# Altium schematic symbol library 元件库.SCHLIB: 16 symbols
Pins are listed as number, name and electrical type; pins without a type are passive.

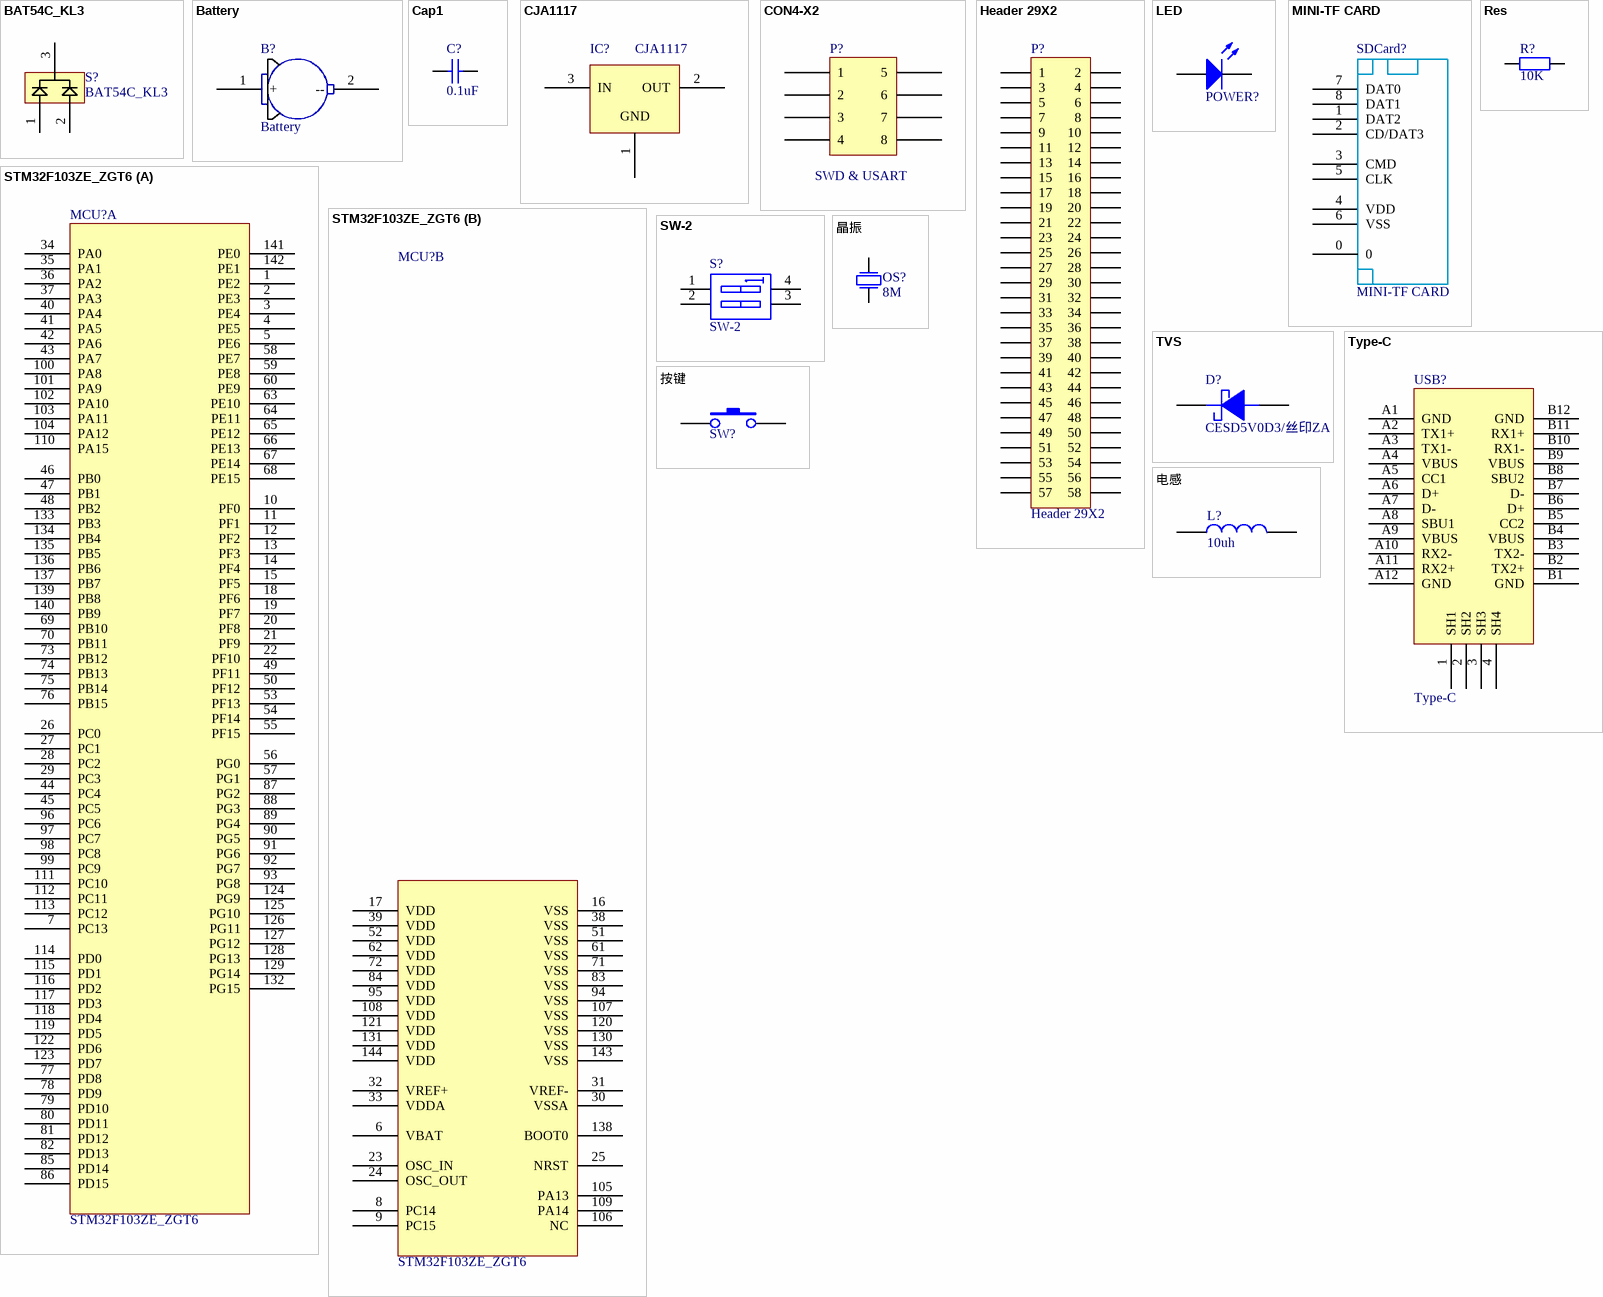
[diagram p0: symbols BAT54C_KL3 to 电感]

## BAT54C_KL3
designator S?
footprint SO-G3/C2.25 (SOT-23; 3 Leads; Body 3.0 x 2.5 mm, inc. leads (LxW max))
pins: 1, 2, 3

## Battery
designator B?
footprint BatteryHolder
footprint CR1220
pins: 1 +, 2 --

## Cap1
designator C?, comment 0.1uF
value: 0.1uF
footprint RAD0.2
footprint RAD0.3
footprint RAD0.4
footprint RAD0.5
footprint RAD0.6
footprint 0603-cap (Chip Capacitor, 2-Leads, Body 1.60x0.80mm, IPC Medium Density)
footprint 0805-CAP (Chip Capacitor, 2-Leads, Body 2.80x1.40mm, IPC Medium Density)
footprint 0402-CAP (Chip Capacitor, 2-Leads, Body 1.00x0.50mm, IPC Medium Density)
pins: 1, 2

## CJA1117
designator IC?
footprint SOT89 (SOT89, 3-Leads, Body 4.50x2.45mm, Pitch 1.50mm, Lead Span 4.1mm, IPC Medium Density)
pins: 1 GND, 2 OUT, 3 IN

## CON4-X2
designator P?, comment SWD & USART
footprint 2X4P-2.5MM-SMD
pins: 1, 2, 3, 4, 5, 6, 7, 8

## Header 29X2
designator P?
footprint HDR2X29
pins: 1, 2, 3, 4, 5, 6, 7, 8, 9, 10, 11, 12, 13, 14, 15, 16, 17, 18, 19, 20, 21, 22, 23, 24, 25, 26, 27, 28, 29, 30, 31, 32, 33, 34, 35, 36, 37, 38, 39, 40, 41, 42, 43, 44, 45, 46, 47, 48, 49, 50, 51, 52, 53, 54, 55, 56, 57, 58

## LED
designator POWER?  (value not drawn)
footprint D0805
footprint LED1
footprint LED2
footprint D1206
footprint D0603
pins: 1 A, 2 K

## MINI-TF CARD
designator SDCard?
footprint MINI-TF CARD
footprint MINI-TF CARD2
pins: 0, 1 DAT2, 2 CD/DAT3, 3 CMD, 4 VDD, 5 CLK, 6 VSS, 7 DAT0, 8 DAT1

## Res
designator R?, comment 10K
value: 10K
footprint AXIAL0.4
footprint AXIAL0.8
footprint 2512
footprint AXIAL0.5
footprint AXIAL0.6
footprint 0603-res
footprint 0805-res (Chip Resistor, 2-Leads, Body 2.20x1.25mm, IPC Medium Density)
footprint 0402-RES (Chip Resistor, 2-Leads, Body 1.00x0.50mm, IPC Medium Density)
pins: 1, 2

## STM32F103ZE_ZGT6
designator MCU?
footprint F-QFP20x20-G144/Z24N (QFP; 144 Leads; Body 20 x 20 mm; Pitch 0.5 mm)
part A pins: 1 PE2, 2 PE3, 3 PE4, 4 PE5, 5 PE6, 7 PC13, 10 PF0, 11 PF1, 12 PF2, 13 PF3, 14 PF4, 15 PF5, 18 PF6, 19 PF7, 20 PF8, 21 PF9, 22 PF10, 26 PC0, 27 PC1, 28 PC2, 29 PC3, 34 PA0, 35 PA1, 36 PA2, 37 PA3, 40 PA4, 41 PA5, 42 PA6, 43 PA7, 44 PC4, 45 PC5, 46 PB0, 47 PB1, 48 PB2, 49 PF11, 50 PF12, 53 PF13, 54 PF14, 55 PF15, 56 PG0, 57 PG1, 58 PE7, 59 PE8, 60 PE9, 63 PE10, 64 PE11, 65 PE12, 66 PE13, 67 PE14, 68 PE15, 69 PB10, 70 PB11, 73 PB12, 74 PB13, 75 PB14, 76 PB15, 77 PD8, 78 PD9, 79 PD10, 80 PD11, 81 PD12, 82 PD13, 85 PD14, 86 PD15, 87 PG2, 88 PG3, 89 PG4, 90 PG5, 91 PG6, 92 PG7, 93 PG8, 96 PC6, 97 PC7, 98 PC8, 99 PC9, 100 PA8, 101 PA9, 102 PA10, 103 PA11, 104 PA12, 110 PA15, 111 PC10, 112 PC11, 113 PC12, 114 PD0, 115 PD1, 116 PD2, 117 PD3, 118 PD4, 119 PD5, 122 PD6, 123 PD7, 124 PG9, 125 PG10, 126 PG11, 127 PG12, 128 PG13, 129 PG14, 132 PG15, 133 PB3, 134 PB4, 135 PB5, 136 PB6, 137 PB7, 139 PB8, 140 PB9, 141 PE0, 142 PE1
part B pins: 6 VBAT, 8 PC14, 9 PC15, 16 VSS, 17 VDD, 23 OSC_IN, 24 OSC_OUT, 25 NRST, 30 VSSA, 31 VREF-, 32 VREF+, 33 VDDA, 38 VSS, 39 VDD, 51 VSS, 52 VDD, 61 VSS, 62 VDD, 71 VSS, 72 VDD, 83 VSS, 84 VDD, 94 VSS, 95 VDD, 105 PA13, 106 NC, 107 VSS, 108 VDD, 109 PA14, 120 VSS, 121 VDD, 130 VSS, 131 VDD, 138 BOOT0, 143 VSS, 144 VDD

## SW-2
designator S?
footprint DIP-4
footprint SWT10*6_P4
pins: 1 A1, 2 A2, 3 B2, 4 B1

## TVS
designator D?, comment CESD5V0D3/丝印ZA
footprint SOD323 (SODFL, 2-Leads, Body 1.30x2.60mm, IPC Medium Density)
footprint SMA/DO-214AC
footprint SMB/DO-214AA
pins: 1 +, 2 -

## Type-C
designator USB?
footprint Type-C (16pin)
pins: 1 SH1, 2 SH2, 3 SH3, 4 SH4, A1 GND, A2 TX1+, A3 TX1-, A4 VBUS, A5 CC1, A6 D+, A7 D-, A8 SBU1, A9 VBUS, A10 RX2-, A11 RX2+, A12 GND, B1 GND, B2 TX2+, B3 TX2-, B4 VBUS, B5 CC2, B6 D+, B7 D-, B8 SBU2, B9 VBUS, B10 RX1-, B11 RX1+, B12 GND

## 按键
designator SW?  (value not drawn)
footprint SW6*6
footprint SW12*12
footprint SWT5*5
footprint SWT6*3
footprint SWT3*4
pins: 1, 2

## 晶振
designator OS?, comment 8M
vaule: 8M
footprint JZ1
footprint JZ_O1
footprint 5032_2P
footprint FC135-3.2X1.5
footprint 3225
footprint 5032
footprint XTAL3
pins: 1 P1, 2 P2

## 电感
designator L?, comment 10uh
footprint AXIAL0.5
footprint 0805 (Chip Resistor, 2-Leads, Body 2.0x1.3mm, IPC Medium Density)
footprint AXIAL0.7
footprint 7257
footprint L12.6
footprint 1210
footprint CDRH104R
footprint CDRH4D28
footprint 0603-res
footprint 0402-res
pins: 1, 2